# EAGLE library part IS62C256AL-* (library memory-issi-asynsram)
32k x 8 low power CMOS static RAM 25ns and 45ns access time 5V power supply
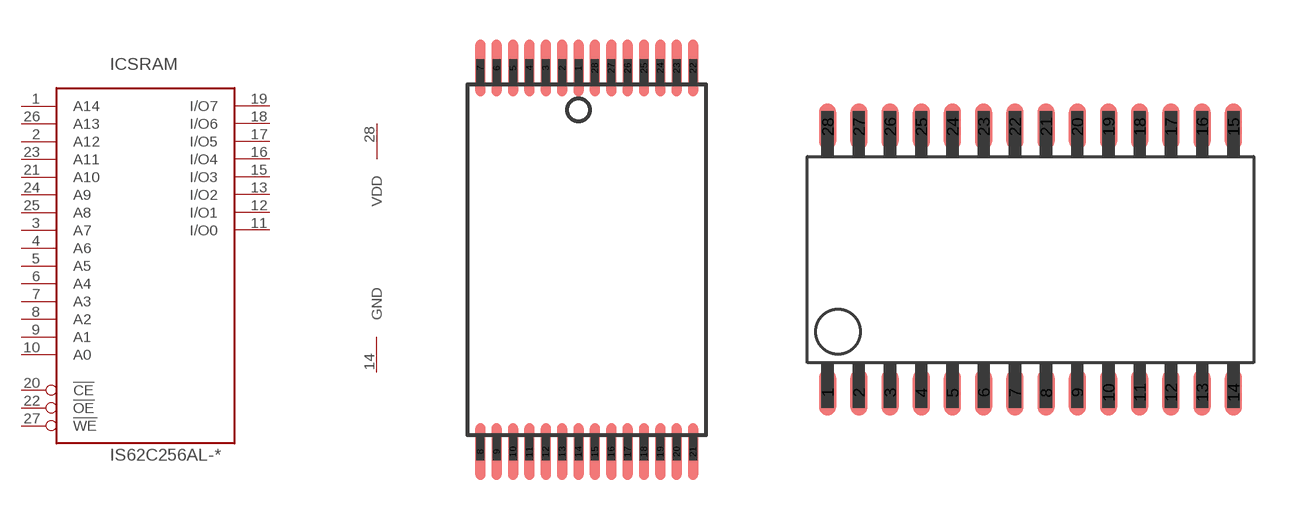
[diagram p2: symbol with the pads of TSOP-I-28; footprints TSOP-I-28, SOP28-330MIL]

Designator prefix IC; gates SRAM=32KX8_TYP1 PWR=PWR_VDD1_GND1

## IS62C256AL-25T, IS62C256AL-45T  [TSOP-I-28]
1  SRAM:A14  in
2  SRAM:A12  in
3  SRAM:A7  in
4  SRAM:A6  in
5  SRAM:A5  in
6  SRAM:A4  in
7  SRAM:A3  in
8  SRAM:A2  in
9  SRAM:A1  in
10  SRAM:A0  in
11  SRAM:I/O0  hiz
12  SRAM:I/O1  hiz
13  SRAM:I/O2  hiz
14  PWR:GND  pwr
15  SRAM:I/O3  hiz
16  SRAM:I/O4  hiz
17  SRAM:I/O5  hiz
18  SRAM:I/O6  hiz
19  SRAM:I/O7  hiz
20  SRAM:!CE  in
21  SRAM:A10  in
22  SRAM:!OE  in
23  SRAM:A11  in
24  SRAM:A9  in
25  SRAM:A8  in
26  SRAM:A13  in
27  SRAM:!WE  in
28  PWR:VDD  pwr

## IS62C256AL-25U, IS62C256AL-45U  [SOP28-330MIL]
Pads as for TSOP-I-28

## Footprint TSOP-I-28 (pad centres in mm)
TSOP-I-28 28-pin thin small-outline package, Typ I
smd 0.33 x 1.9: 1 -0.275,6.45; 2 -0.825,6.45; 3 -1.375,6.45; 4 -1.925,6.45; 5 -2.475,6.45; 6 -3.025,6.45; 7 -3.575,6.45; 8 -3.575,-6.45; 9 -3.025,-6.45; 10 -2.475,-6.45; 11 -1.925,-6.45; 12 -1.375,-6.45; 13 -0.825,-6.45; 14 -0.275,-6.45; 15 0.275,-6.45; 16 0.825,-6.45; 17 1.375,-6.45; 18 1.925,-6.45; 19 2.475,-6.45; 20 3.025,-6.45; 21 3.575,-6.45; 22 3.575,6.45; 23 3.025,6.45; 24 2.475,6.45; 25 1.925,6.45; 26 1.375,6.45; 27 0.825,6.45; 28 0.275,6.45

## Footprint SOP28-330MIL (pad centres in mm)
SOP28-330mil 28-pin small-outline package
smd 0.7 x 1.9: 1 -8.255,-5.415; 2 -6.985,-5.415; 3 -5.715,-5.415; 4 -4.445,-5.415; 5 -3.175,-5.415; 6 -1.905,-5.415; 7 -0.635,-5.415; 8 0.635,-5.415; 9 1.905,-5.415; 10 3.175,-5.415; 11 4.445,-5.415; 12 5.715,-5.415; 13 6.985,-5.415; 14 8.255,-5.415; 15 8.255,5.415; 16 6.985,5.415; 17 5.715,5.415; 18 4.445,5.415; 19 3.175,5.415; 20 1.905,5.415; 21 0.635,5.415; 22 -0.635,5.415; 23 -1.905,5.415; 24 -3.175,5.415; 25 -4.445,5.415; 26 -5.715,5.415; 27 -6.985,5.415; 28 -8.255,5.415